# Altium integrated library Maxim Memory.IntLib: 366 symbols (part 7 of 7)
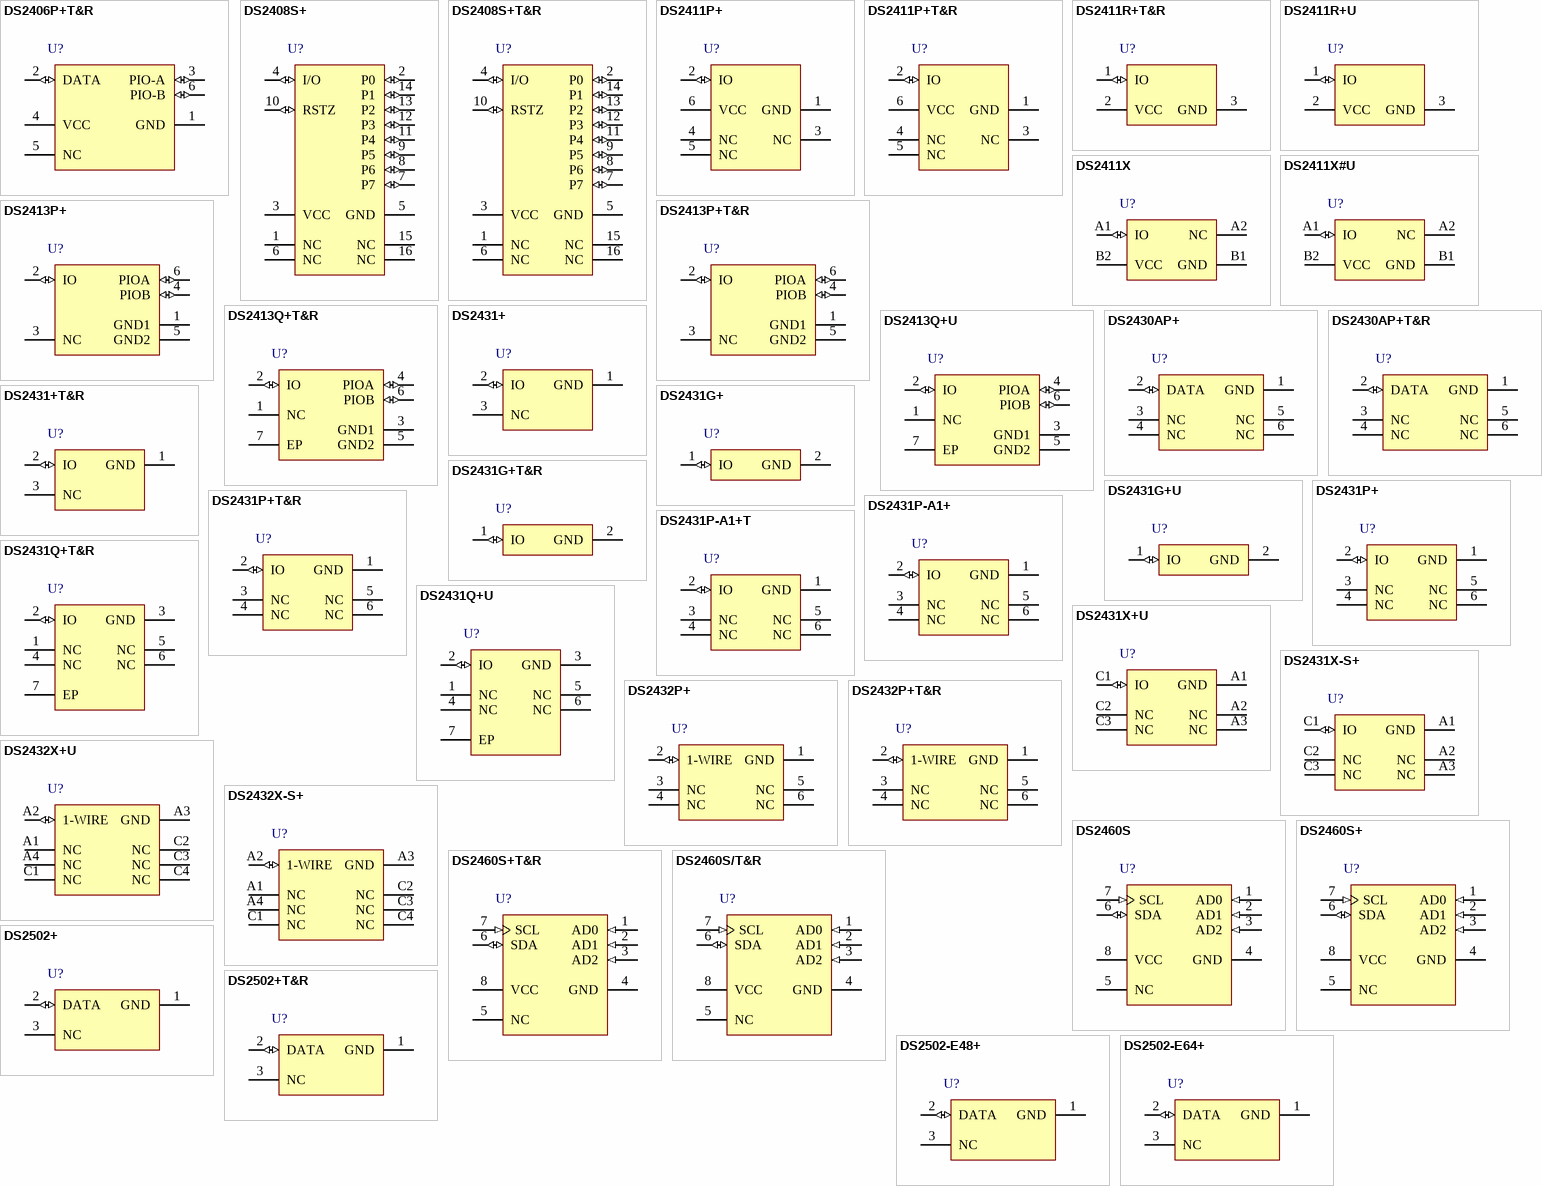
[diagram p19: symbols DS2406P+T&R to DS2502-E64+]

## DS2413Q+T&R
designator U?
1-Wire Dual Channel Addressable Switch, 6-pin TDFN, 0° to + 70° C, Pb-Free, Tape and Reel; DatasheetVersion: 1/07/2010; PackageVersion: revJ, 2009; PackageReference: T633+2; PackageDescription: 6-Pin Plastic Very Very Thin Dual Flatpack No Leads, Exposed Pad, 3 x 3 x 0.8 mm Body, TDFN-EP, Pb-Free; Code_JEDEC: MO-229-WEEA; ComponentLink1Description: Manufacturer URL; ComponentLink1URL: www.maxim-ic.com; ComponentLink2Description: Datasheet; ComponentLink2URL: http://datasheets.maxim-ic.com/en/ds/DS2413.pdf
footprint T633+2_V (SON, 6-Leads, Body 3x3mm, Pitch 0.95mm, Thermal Pad 2.35x1.6mm, Maxim Recommended)
pins: 1 NC, 2 IO (io), 3 GND1 (power), 4 PIOA (io), 5 GND2 (power), 6 PIOB (io), 7 EP

## DS2413Q+U
designator U?
1-Wire Dual Channel Addressable Switch, 6-pin TDFN, 0° to + 70° C, Pb-Free, Cut Tape; DatasheetVersion: 1/07/2010; PackageVersion: revJ, 2009; PackageReference: T633+2; PackageDescription: 6-Pin Plastic Very Very Thin Dual Flatpack No Leads, Exposed Pad, 3 x 3 x 0.8 mm Body, TDFN-EP, Pb-Free; Code_JEDEC: MO-229-WEEA; ComponentLink1Description: Manufacturer URL; ComponentLink1URL: www.maxim-ic.com; ComponentLink2Description: Datasheet; ComponentLink2URL: http://datasheets.maxim-ic.com/en/ds/DS2413.pdf
footprint T633+2_V (SON, 6-Leads, Body 3x3mm, Pitch 0.95mm, Thermal Pad 2.35x1.6mm, Maxim Recommended)
pins: 1 NC, 2 IO (io), 3 GND1 (power), 4 PIOA (io), 5 GND2 (power), 6 PIOB (io), 7 EP

## DS2430AP+
designator U?
256-Bit 1-Wire EEPROM, 6-pin TSOC, -40° to + 85° C, Pb-Free; DatasheetVersion: 1/04/2010; PackageVersion: revE, 2011; PackageReference: D6+1; PackageDescription: Thin Small-Outline, 6 C-Leads, 3.9 x 3.8 mm Body, 1.27 mm Pitch, TSOC, Pb-Free; ComponentLink1Description: Manufacturer URL; ComponentLink1URL: www.maxim-ic.com; ComponentLink2Description: Datasheet; ComponentLink2URL: http://datasheets.maxim-ic.com/en/ds/DS2430A.pdf
footprint D6+1 (Small Outline; 6 C-Bend Leads; Body Width 3.8 mm; Pitch 1.27 mm, Maxim Recommended)
pins: 1 GND (power), 2 DATA (io), 3 NC, 4 NC, 5 NC, 6 NC

## DS2430AP+T&R
designator U?
256-Bit 1-Wire EEPROM, 6-pin TSOC, -40° to + 85° C, Pb-Free, Tape and Reel; DatasheetVersion: 1/04/2010; PackageVersion: revE, 2011; PackageReference: D6+1; PackageDescription: Thin Small-Outline, 6 C-Leads, 3.9 x 3.8 mm Body, 1.27 mm Pitch, TSOC, Pb-Free; ComponentLink1Description: Manufacturer URL; ComponentLink1URL: www.maxim-ic.com; ComponentLink2Description: Datasheet; ComponentLink2URL: http://datasheets.maxim-ic.com/en/ds/DS2430A.pdf
footprint D6+1 (Small Outline; 6 C-Bend Leads; Body Width 3.8 mm; Pitch 1.27 mm, Maxim Recommended)
pins: 1 GND (power), 2 DATA (io), 3 NC, 4 NC, 5 NC, 6 NC

## DS2431+
designator U?
1Kb 1-Wire EEPROM, 3-pin TO-92, -40° to + 85° C, Pb-Free; DatasheetVersion: 1/03/2011; PackageVersion: revB, 2009; PackageReference: Q3+1; PackageDescription: TO-92 Package, Body Dia. 4.7mm; Leads 0.51 x 0.51 mm (max), Pb-Free; Code_JEDEC: TO-226-AA; ComponentLink1Description: Manufacturer URL; ComponentLink1URL: www.maxim-ic.com; ComponentLink2Description: Datasheet; ComponentLink2URL: http://datasheets.maxim-ic.com/en/ds/DS2431.pdf
footprint Q3+1 (TO, Flat Index; 3 In-Line, Axial Leads; Body Dia. 4.7mm; Leads 0.56 x 0.51 mm (max))
pins: 1 GND (power), 2 IO (io), 3 NC

## DS2431+T&R
designator U?
1Kb 1-Wire EEPROM, 3-pin TO-92, -40° to + 85° C, Pb-Free, Tape and Reel; DatasheetVersion: 1/03/2011; PackageVersion: revB, 2010; PackageReference: Q3+4; PackageDescription: TO-92 Package, Formed Leads, Body Dia. 4.7mm; Leads 0.51 x 0.51 mm (max), Pb-Free; Code_JEDEC: TO-226-AA; ComponentLink1Description: Manufacturer URL; ComponentLink1URL: www.maxim-ic.com; ComponentLink2Description: Datasheet; ComponentLink2URL: http://datasheets.maxim-ic.com/en/ds/DS2431.pdf
footprint Q3+4 (TO, Flat Index; 3 In-Line, Formed Axial Leads; Body Dia. 4.7mm; Leads 0.56 x 0.51 mm (max))
pins: 1 GND (power), 2 IO (io), 3 NC

## DS2431G+
designator U?
1Kb 1-Wire EEPROM, 2-pin SFN, -40° to + 85° C, Pb-Free; DatasheetVersion: 1/03/2011; PackageVersion: revB, 2009; PackageReference: G266N+1; PackageDescription: 2-Pin Quad Flatpack, No Leads, 6 x 6 x 0.9 mm Body, SFN, Pb-Free; ComponentLink1Description: Manufacturer URL; ComponentLink1URL: www.maxim-ic.com; ComponentLink2Description: Datasheet; ComponentLink2URL: http://datasheets.maxim-ic.com/en/ds/DS2431.pdf
footprint G266N+1 (SFN, 2-Leads, Body 6x6mm)
pins: 1 IO (io), 2 GND (power)

## DS2431G+T&R
designator U?
1Kb 1-Wire EEPROM, 2-pin SFN, -40° to + 85° C, Pb-Free, Tape and Reel; DatasheetVersion: 1/03/2011; PackageVersion: revB, 2009; PackageReference: G266N+1; PackageDescription: 2-Pin Quad Flatpack, No Leads, 6 x 6 x 0.9 mm Body, SFN, Pb-Free; ComponentLink1Description: Manufacturer URL; ComponentLink1URL: www.maxim-ic.com; ComponentLink2Description: Datasheet; ComponentLink2URL: http://datasheets.maxim-ic.com/en/ds/DS2431.pdf
footprint G266N+1 (SFN, 2-Leads, Body 6x6mm)
pins: 1 IO (io), 2 GND (power)

## DS2431G+U
designator U?
1Kb 1-Wire EEPROM, 2-pin SFN, -40° to + 85° C, Pb-Free, Cut Tape; DatasheetVersion: 1/03/2011; PackageVersion: revB, 2009; PackageReference: G266N+1; PackageDescription: 2-Pin Quad Flatpack, No Leads, 6 x 6 x 0.9 mm Body, SFN, Pb-Free; ComponentLink1Description: Manufacturer URL; ComponentLink1URL: www.maxim-ic.com; ComponentLink2Description: Datasheet; ComponentLink2URL: http://datasheets.maxim-ic.com/en/ds/DS2431.pdf
footprint G266N+1 (SFN, 2-Leads, Body 6x6mm)
pins: 1 IO (io), 2 GND (power)

## DS2431P+
designator U?
1Kb 1-Wire EEPROM, 6-pin TSOC, -40° to + 85° C, Pb-Free; DatasheetVersion: 1/03/2011; PackageVersion: revE, 2011; PackageReference: D6+1; PackageDescription: Thin Small-Outline, 6 C-Leads, 3.9 x 3.8 mm Body, 1.27 mm Pitch, TSOC, Pb-Free; ComponentLink1Description: Manufacturer URL; ComponentLink1URL: www.maxim-ic.com; ComponentLink2Description: Datasheet; ComponentLink2URL: http://datasheets.maxim-ic.com/en/ds/DS2431.pdf
footprint D6+1 (Small Outline; 6 C-Bend Leads; Body Width 3.8 mm; Pitch 1.27 mm, Maxim Recommended)
pins: 1 GND (power), 2 IO (io), 3 NC, 4 NC, 5 NC, 6 NC

## DS2431P+T&R
designator U?
1Kb 1-Wire EEPROM, 6-pin TSOC, -40° to + 85° C, Pb-Free, Tape and Reel; DatasheetVersion: 1/03/2011; PackageVersion: revE, 2011; PackageReference: D6+1; PackageDescription: Thin Small-Outline, 6 C-Leads, 3.9 x 3.8 mm Body, 1.27 mm Pitch, TSOC, Pb-Free; ComponentLink1Description: Manufacturer URL; ComponentLink1URL: www.maxim-ic.com; ComponentLink2Description: Datasheet; ComponentLink2URL: http://datasheets.maxim-ic.com/en/ds/DS2431.pdf
footprint D6+1 (Small Outline; 6 C-Bend Leads; Body Width 3.8 mm; Pitch 1.27 mm, Maxim Recommended)
pins: 1 GND (power), 2 IO (io), 3 NC, 4 NC, 5 NC, 6 NC

## DS2431P-A1+
designator U?
1Kb 1-Wire EEPROM for Automotive Applications, 6-pin TSOC, -40° to + 125° C, Pb-Free; DatasheetVersion: 1/03/2008; PackageVersion: revE, 2011; PackageReference: D6+1; PackageDescription: Thin Small-Outline, 6 C-Leads, 3.9 x 3.8 mm Body, 1.27 mm Pitch, TSOC, Pb-Free; ComponentLink1Description: Manufacturer URL; ComponentLink1URL: www.maxim-ic.com; ComponentLink2Description: Datasheet; ComponentLink2URL: http://datasheets.maxim-ic.com/en/ds/DS2431-A1.pdf
footprint D6+1 (Small Outline; 6 C-Bend Leads; Body Width 3.8 mm; Pitch 1.27 mm, Maxim Recommended)
pins: 1 GND (power), 2 IO (io), 3 NC, 4 NC, 5 NC, 6 NC

## DS2431P-A1+T
designator U?
1Kb 1-Wire EEPROM for Automotive Applications, 6-pin TSOC, -40° to + 125° C, Pb-Free, Tape and Reel; DatasheetVersion: 1/03/2008; PackageVersion: revE, 2011; PackageReference: D6+1; PackageDescription: Thin Small-Outline, 6 C-Leads, 3.9 x 3.8 mm Body, 1.27 mm Pitch, TSOC, Pb-Free; ComponentLink1Description: Manufacturer URL; ComponentLink1URL: www.maxim-ic.com; ComponentLink2Description: Datasheet; ComponentLink2URL: http://datasheets.maxim-ic.com/en/ds/DS2431-A1.pdf
footprint D6+1 (Small Outline; 6 C-Bend Leads; Body Width 3.8 mm; Pitch 1.27 mm, Maxim Recommended)
pins: 1 GND (power), 2 IO (io), 3 NC, 4 NC, 5 NC, 6 NC

## DS2431Q+T&R
designator U?
1Kb 1-Wire EEPROM, 6-pin TDFN, -40° to + 85° C, Pb-Free, Tape and Reel; DatasheetVersion: 1/03/2011; PackageVersion: revJ, 2009; PackageReference: T633+2; PackageDescription: 6-Pin Plastic Very Very Thin Dual Flatpack No Leads, Exposed Pad, 3 x 3 x 0.8 mm Body, TDFN-EP, Pb-Free; Code_JEDEC: MO-229-WEEA; ComponentLink1Description: Manufacturer URL; ComponentLink1URL: www.maxim-ic.com; ComponentLink2Description: Datasheet; ComponentLink2URL: http://datasheets.maxim-ic.com/en/ds/DS2431.pdf
footprint T633+2_V (SON, 6-Leads, Body 3x3mm, Pitch 0.95mm, Thermal Pad 2.35x1.6mm, Maxim Recommended)
pins: 1 NC, 2 IO (io), 3 GND (power), 4 NC, 5 NC, 6 NC, 7 EP

## DS2431Q+U
designator U?
1Kb 1-Wire EEPROM, 6-pin TDFN, -40° to + 85° C, Pb-Free, Cut Tape; DatasheetVersion: 1/03/2011; PackageVersion: revJ, 2009; PackageReference: T633+2; PackageDescription: 6-Pin Plastic Very Very Thin Dual Flatpack No Leads, Exposed Pad, 3 x 3 x 0.8 mm Body, TDFN-EP, Pb-Free; Code_JEDEC: MO-229-WEEA; ComponentLink1Description: Manufacturer URL; ComponentLink1URL: www.maxim-ic.com; ComponentLink2Description: Datasheet; ComponentLink2URL: http://datasheets.maxim-ic.com/en/ds/DS2431.pdf
footprint T633+2_V (SON, 6-Leads, Body 3x3mm, Pitch 0.95mm, Thermal Pad 2.35x1.6mm, Maxim Recommended)
pins: 1 NC, 2 IO (io), 3 GND (power), 4 NC, 5 NC, 6 NC, 7 EP

## DS2431X+U
designator U?
1Kb 1-Wire EEPROM, 6-pin UCSPR, -40° to + 85° C, Pb-Free, Cut Tape; DatasheetVersion: 1/03/2011; PackageVersion: revB, 2010; PackageReference: BR622+1; PackageDescription: 6-Ball Ultra Chip-Scale Package, 3x3 Array, 0.5mm Pitch, UCSP, Pb-Free; ComponentLink1Description: Manufacturer URL; ComponentLink1URL: www.maxim-ic.com; ComponentLink2Description: Datasheet; ComponentLink2URL: http://datasheets.maxim-ic.com/en/ds/DS2431.pdf
footprint BR622+1 (Micro SMD, 6-Leads, Body 1.68x1.68mm, Pitch 0.5mm)
pins: A1 GND (power), A2 NC, A3 NC, C1 IO (io), C2 NC, C3 NC

## DS2431X-S+
designator U?
1Kb 1-Wire EEPROM, 6-pin UCSPR, -40° to + 85° C, Pb-Free; DatasheetVersion: 1/03/2011; PackageVersion: revB, 2010; PackageReference: BR622+1; PackageDescription: 6-Ball Ultra Chip-Scale Package, 3x3 Array, 0.5mm Pitch, UCSP, Pb-Free; ComponentLink1Description: Manufacturer URL; ComponentLink1URL: www.maxim-ic.com; ComponentLink2Description: Datasheet; ComponentLink2URL: http://datasheets.maxim-ic.com/en/ds/DS2431.pdf
footprint BR622+1 (Micro SMD, 6-Leads, Body 1.68x1.68mm, Pitch 0.5mm)
pins: A1 GND (power), A2 NC, A3 NC, C1 IO (io), C2 NC, C3 NC

## DS2432P+
designator U?
1Kb Protected 1-Wire EEPROM with SHA-1 Engine, 6-pin TSOC, -40° to + 85° C, Pb-Free; DatasheetVersion: 1/02/2010; PackageVersion: revE, 2011; PackageReference: D6+1; PackageDescription: Thin Small-Outline, 6 C-Leads, 3.9 x 3.8 mm Body, 1.27 mm Pitch, TSOC, Pb-Free; ComponentLink1Description: Manufacturer URL; ComponentLink1URL: www.maxim-ic.com; ComponentLink2Description: Datasheet; ComponentLink2URL: http://datasheets.maxim-ic.com/en/ds/DS2432.pdf
footprint D6+1 (Small Outline; 6 C-Bend Leads; Body Width 3.8 mm; Pitch 1.27 mm, Maxim Recommended)
pins: 1 GND (power), 2 1-WIRE (io), 3 NC, 4 NC, 5 NC, 6 NC

## DS2432P+T&R
designator U?
1Kb Protected 1-Wire EEPROM with SHA-1 Engine, 6-pin TSOC, -40° to + 85° C, Pb-Free, Tape and Reel; DatasheetVersion: 1/02/2010; PackageVersion: revE, 2011; PackageReference: D6+1; PackageDescription: Thin Small-Outline, 6 C-Leads, 3.9 x 3.8 mm Body, 1.27 mm Pitch, TSOC, Pb-Free; ComponentLink1Description: Manufacturer URL; ComponentLink1URL: www.maxim-ic.com; ComponentLink2Description: Datasheet; ComponentLink2URL: http://datasheets.maxim-ic.com/en/ds/DS2432.pdf
footprint D6+1 (Small Outline; 6 C-Bend Leads; Body Width 3.8 mm; Pitch 1.27 mm, Maxim Recommended)
pins: 1 GND (power), 2 1-WIRE (io), 3 NC, 4 NC, 5 NC, 6 NC

## DS2432X+U
designator U?
1Kb Protected 1-Wire EEPROM with SHA-1 Engine, 8-pin UCSP, -40° to + 85° C, Pb-Free, Cut Tape; DatasheetVersion: 1/02/2010; PackageVersion: revB, 2009; PackageReference: BR823+1; PackageDescription: 8-Ball Wafer-Level Chip-Scale Package, 4x3 Array, 0.3 mm Ball Dia, WLCSP; ComponentLink1Description: Manufacturer URL; ComponentLink1URL: www.maxim-ic.com; ComponentLink2Description: Datasheet; ComponentLink2URL: http://datasheets.maxim-ic.com/en/ds/DS2432.pdf
footprint BR823+1 (Micro SMD, 8-Leads, Body 1.8x2.52mm, Pitch 0.5mm)
pins: A1 NC, A2 1-WIRE (io), A3 GND (power), A4 NC, C1 NC, C2 NC, C3 NC, C4 NC

## DS2432X-S+
designator U?
1Kb Protected 1-Wire EEPROM with SHA-1 Engine, 8-pin UCSP, -40° to + 85° C, Pb-Free; DatasheetVersion: 1/02/2010; PackageVersion: revB, 2009; PackageReference: BR823+1; PackageDescription: 8-Ball Wafer-Level Chip-Scale Package, 4x3 Array, 0.3 mm Ball Dia, WLCSP; ComponentLink1Description: Manufacturer URL; ComponentLink1URL: www.maxim-ic.com; ComponentLink2Description: Datasheet; ComponentLink2URL: http://datasheets.maxim-ic.com/en/ds/DS2432.pdf
footprint BR823+1 (Micro SMD, 8-Leads, Body 1.8x2.52mm, Pitch 0.5mm)
pins: A1 NC, A2 1-WIRE (io), A3 GND (power), A4 NC, C1 NC, C2 NC, C3 NC, C4 NC

## DS2460S
designator U?
SHA-1 Coprocessor with EEPROM, 8-pin SOIC (150 mils), -40° to + 85° C; DatasheetVersion: 1/03/2010; PackageVersion: revC, 2010; PackageReference: S8-4; PackageDescription: 8-Pin Small-Outline IC, Narrow (0.15in), 1.27 mm Pitch, SOIC (N); Code_JEDEC: MS-012-AA; Code_IPC: SOIC127P600-8; ComponentLink1Description: Manufacturer URL; ComponentLink1URL: www.maxim-ic.com; ComponentLink2Description: Datasheet; ComponentLink2URL: http://datasheets.maxim-ic.com/en/ds/DS2460.pdf
footprint S8-4_N (SOIC, 8-Leads, Body 4.9x3.9mm, Pitch 1.27mm, IPC Medium Density)
footprint S8-4_L (SOIC, 8-Leads, Body 4.9x3.9mm, Pitch 1.27mm, IPC High Density)
footprint S8-4_M (SOIC, 8-Leads, Body 4.9x3.9mm, Pitch 1.27mm, IPC Low Density)
pins: 1 AD0 (in), 2 AD1 (in), 3 AD2 (in), 4 GND (power), 5 NC, 6 SDA (io), 7 SCL (in), 8 VCC (power)

## DS2460S+
designator U?
SHA-1 Coprocessor with EEPROM, 8-pin SOIC (150 mils), -40° to + 85° C, Pb-Free; DatasheetVersion: 1/03/2010; PackageVersion: revC, 2010; PackageReference: S8+4; PackageDescription: 8-Pin Small-Outline IC, Narrow (0.15in), 1.27 mm Pitch, SOIC (N), Pb-Free; Code_JEDEC: MS-012-AA; Code_IPC: SOIC127P600-8; ComponentLink1Description: Manufacturer URL; ComponentLink1URL: www.maxim-ic.com; ComponentLink2Description: Datasheet; ComponentLink2URL: http://datasheets.maxim-ic.com/en/ds/DS2460.pdf
footprint S8+4_N (SOIC, 8-Leads, Body 4.9x3.9mm, Pitch 1.27mm, IPC Medium Density)
footprint S8+4_L (SOIC, 8-Leads, Body 4.9x3.9mm, Pitch 1.27mm, IPC High Density)
footprint S8+4_M (SOIC, 8-Leads, Body 4.9x3.9mm, Pitch 1.27mm, IPC Low Density)
pins: 1 AD0 (in), 2 AD1 (in), 3 AD2 (in), 4 GND (power), 5 NC, 6 SDA (io), 7 SCL (in), 8 VCC (power)

## DS2460S+T&R
designator U?
SHA-1 Coprocessor with EEPROM, 8-pin SOIC (150 mils), -40° to + 85° C, Pb-Free, Tape and Reel; DatasheetVersion: 1/03/2010; PackageVersion: revC, 2010; PackageReference: S8+4; PackageDescription: 8-Pin Small-Outline IC, Narrow (0.15in), 1.27 mm Pitch, SOIC (N), Pb-Free; Code_JEDEC: MS-012-AA; Code_IPC: SOIC127P600-8; ComponentLink1Description: Manufacturer URL; ComponentLink1URL: www.maxim-ic.com; ComponentLink2Description: Datasheet; ComponentLink2URL: http://datasheets.maxim-ic.com/en/ds/DS2460.pdf
footprint S8+4_N (SOIC, 8-Leads, Body 4.9x3.9mm, Pitch 1.27mm, IPC Medium Density)
footprint S8+4_L (SOIC, 8-Leads, Body 4.9x3.9mm, Pitch 1.27mm, IPC High Density)
footprint S8+4_M (SOIC, 8-Leads, Body 4.9x3.9mm, Pitch 1.27mm, IPC Low Density)
pins: 1 AD0 (in), 2 AD1 (in), 3 AD2 (in), 4 GND (power), 5 NC, 6 SDA (io), 7 SCL (in), 8 VCC (power)

## DS2460S/T&R
designator U?
SHA-1 Coprocessor with EEPROM, 8-pin SOIC (150 mils), -40° to + 85° C, Tape and Reel; DatasheetVersion: 1/03/2010; PackageVersion: revC, 2010; PackageReference: S8-4; PackageDescription: 8-Pin Small-Outline IC, Narrow (0.15in), 1.27 mm Pitch, SOIC (N); Code_JEDEC: MS-012-AA; Code_IPC: SOIC127P600-8; ComponentLink1Description: Manufacturer URL; ComponentLink1URL: www.maxim-ic.com; ComponentLink2Description: Datasheet; ComponentLink2URL: http://datasheets.maxim-ic.com/en/ds/DS2460.pdf
footprint S8-4_N (SOIC, 8-Leads, Body 4.9x3.9mm, Pitch 1.27mm, IPC Medium Density)
footprint S8-4_L (SOIC, 8-Leads, Body 4.9x3.9mm, Pitch 1.27mm, IPC High Density)
footprint S8-4_M (SOIC, 8-Leads, Body 4.9x3.9mm, Pitch 1.27mm, IPC Low Density)
pins: 1 AD0 (in), 2 AD1 (in), 3 AD2 (in), 4 GND (power), 5 NC, 6 SDA (io), 7 SCL (in), 8 VCC (power)

## DS2502+
designator U?
1Kb Add-Only Memory, 3-pin TO-92, -40° to + 85° C, Pb-Free; DatasheetVersion: 1/12/2009; PackageVersion: revB, 2009; PackageReference: Q3+1; PackageDescription: TO-92 Package, Body Dia. 4.7mm; Leads 0.51 x 0.51 mm (max), Pb-Free; Code_JEDEC: TO-226-AA; ComponentLink1Description: Manufacturer URL; ComponentLink1URL: www.maxim-ic.com; ComponentLink2Description: Datasheet; ComponentLink2URL: http://datasheets.maxim-ic.com/en/ds/DS2502.pdf
footprint Q3+1 (TO, Flat Index; 3 In-Line, Axial Leads; Body Dia. 4.7mm; Leads 0.56 x 0.51 mm (max))
pins: 1 GND (power), 2 DATA (io), 3 NC

## DS2502+T&R
designator U?
1Kb Add-Only Memory, 3-pin TO-92, -40° to + 85° C, Pb-Free, Tape and Reel; DatasheetVersion: 1/12/2009; PackageVersion: revB, 2010; PackageReference: Q3+4; PackageDescription: TO-92 Package, Formed Leads, Body Dia. 4.7mm; Leads 0.51 x 0.51 mm (max), Pb-Free; Code_JEDEC: TO-226-AA; ComponentLink1Description: Manufacturer URL; ComponentLink1URL: www.maxim-ic.com; ComponentLink2Description: Datasheet; ComponentLink2URL: http://datasheets.maxim-ic.com/en/ds/DS2502.pdf
footprint Q3+4 (TO, Flat Index; 3 In-Line, Formed Axial Leads; Body Dia. 4.7mm; Leads 0.56 x 0.51 mm (max))
pins: 1 GND (power), 2 DATA (io), 3 NC

## DS2502-E48+
designator U?
48-Bit Node Address Chip, 3-pin TO-92, -40° to + 85° C, Pb-Free; DatasheetVersion: 1/12/2009; PackageVersion: revB, 2009; PackageReference: Q3+1; PackageDescription: TO-92 Package, Body Dia. 4.7mm; Leads 0.51 x 0.51 mm (max), Pb-Free; Code_JEDEC: TO-226-AA; ComponentLink1Description: Manufacturer URL; ComponentLink1URL: www.maxim-ic.com; ComponentLink2Description: Datasheet; ComponentLink2URL: http://datasheets.maxim-ic.com/en/ds/DS2502-E48.pdf
footprint Q3+1 (TO, Flat Index; 3 In-Line, Axial Leads; Body Dia. 4.7mm; Leads 0.56 x 0.51 mm (max))
pins: 1 GND (power), 2 DATA (io), 3 NC

## DS2502-E64+
designator U?
IEEE EUI-64 Node Address Chip, 3-pin TO-92, -40° to + 85° C, Pb-Free; DatasheetVersion: 1/12/2009; PackageVersion: revB, 2009; PackageReference: Q3+1; PackageDescription: TO-92 Package, Body Dia. 4.7mm; Leads 0.51 x 0.51 mm (max), Pb-Free; Code_JEDEC: TO-226-AA; ComponentLink1Description: Manufacturer URL; ComponentLink1URL: www.maxim-ic.com; ComponentLink2Description: Datasheet; ComponentLink2URL: http://datasheets.maxim-ic.com/en/ds/DS2502-E64.pdf
footprint Q3+1 (TO, Flat Index; 3 In-Line, Axial Leads; Body Dia. 4.7mm; Leads 0.56 x 0.51 mm (max))
pins: 1 GND (power), 2 DATA (io), 3 NC

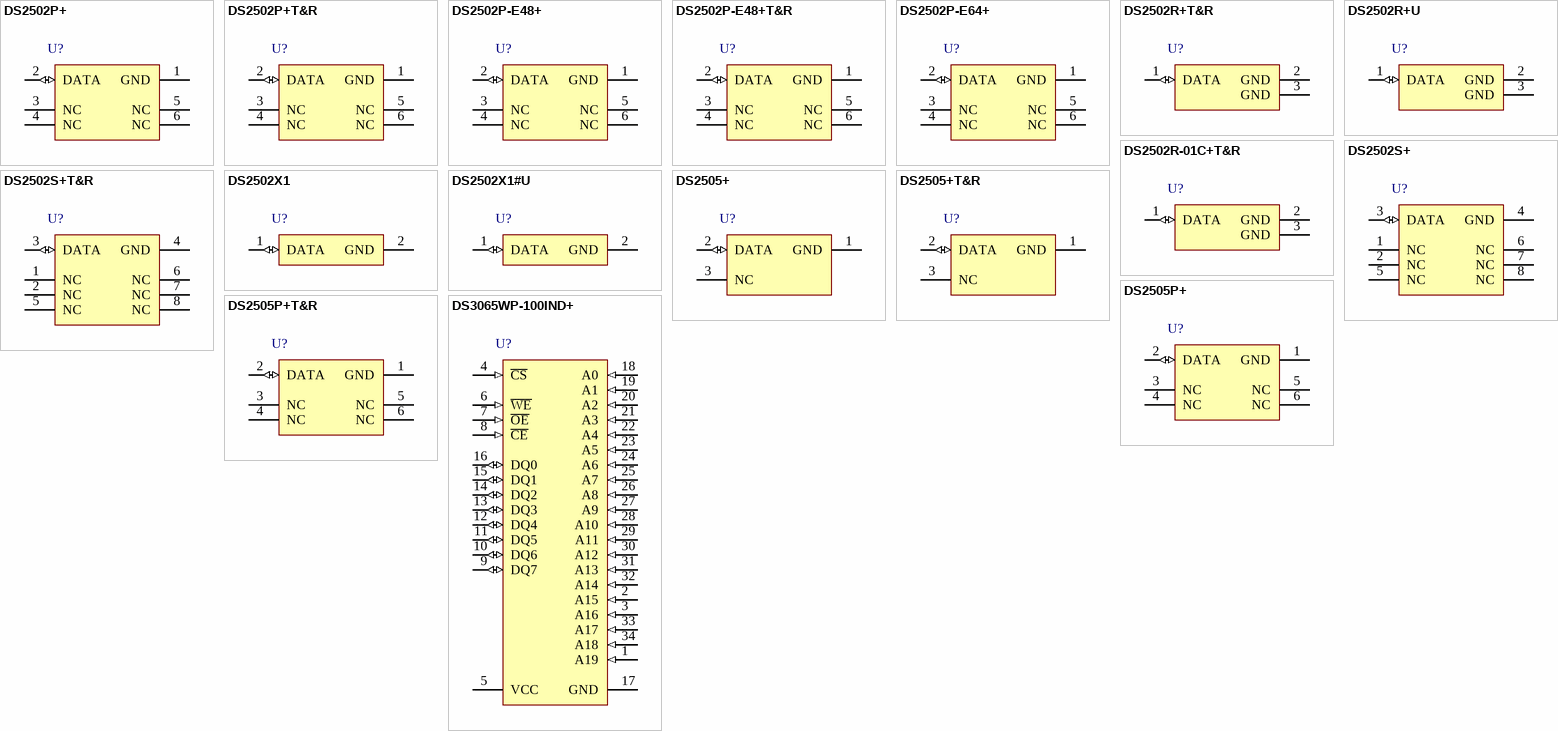
[diagram p13: symbols DS2502P+ to DS3065WP-100IND+]

## DS2502P+
designator U?
1Kb Add-Only Memory, 6-pin TSOC, -40° to + 85° C, Pb-Free; DatasheetVersion: 1/12/2009; PackageVersion: revE, 2011; PackageReference: D6+1; PackageDescription: Thin Small-Outline, 6 C-Leads, 3.9 x 3.8 mm Body, 1.27 mm Pitch, TSOC, Pb-Free; ComponentLink1Description: Manufacturer URL; ComponentLink1URL: www.maxim-ic.com; ComponentLink2Description: Datasheet; ComponentLink2URL: http://datasheets.maxim-ic.com/en/ds/DS2502.pdf
footprint D6+1 (Small Outline; 6 C-Bend Leads; Body Width 3.8 mm; Pitch 1.27 mm, Maxim Recommended)
pins: 1 GND (power), 2 DATA (io), 3 NC, 4 NC, 5 NC, 6 NC

## DS2502P+T&R
designator U?
1Kb Add-Only Memory, 6-pin TSOC, -40° to + 85° C, Pb-Free, Tape and Reel; DatasheetVersion: 1/12/2009; PackageVersion: revE, 2011; PackageReference: D6+1; PackageDescription: Thin Small-Outline, 6 C-Leads, 3.9 x 3.8 mm Body, 1.27 mm Pitch, TSOC, Pb-Free; ComponentLink1Description: Manufacturer URL; ComponentLink1URL: www.maxim-ic.com; ComponentLink2Description: Datasheet; ComponentLink2URL: http://datasheets.maxim-ic.com/en/ds/DS2502.pdf
footprint D6+1 (Small Outline; 6 C-Bend Leads; Body Width 3.8 mm; Pitch 1.27 mm, Maxim Recommended)
pins: 1 GND (power), 2 DATA (io), 3 NC, 4 NC, 5 NC, 6 NC

## DS2502P-E48+
designator U?
48-Bit Node Address Chip, 6-pin TSOC, -40° to + 85° C, Pb-Free; DatasheetVersion: 1/12/2009; PackageVersion: revE, 2011; PackageReference: D6+1; PackageDescription: Thin Small-Outline, 6 C-Leads, 3.9 x 3.8 mm Body, 1.27 mm Pitch, TSOC, Pb-Free; ComponentLink1Description: Manufacturer URL; ComponentLink1URL: www.maxim-ic.com; ComponentLink2Description: Datasheet; ComponentLink2URL: http://datasheets.maxim-ic.com/en/ds/DS2502-E48.pdf
footprint D6+1 (Small Outline; 6 C-Bend Leads; Body Width 3.8 mm; Pitch 1.27 mm, Maxim Recommended)
pins: 1 GND (power), 2 DATA (io), 3 NC, 4 NC, 5 NC, 6 NC

## DS2502P-E48+T&R
designator U?
48-Bit Node Address Chip, 6-pin TSOC, -40° to + 85° C, Pb-Free, Tape and Reel; DatasheetVersion: 1/12/2009; PackageVersion: revE, 2011; PackageReference: D6+1; PackageDescription: Thin Small-Outline, 6 C-Leads, 3.9 x 3.8 mm Body, 1.27 mm Pitch, TSOC, Pb-Free; ComponentLink1Description: Manufacturer URL; ComponentLink1URL: www.maxim-ic.com; ComponentLink2Description: Datasheet; ComponentLink2URL: http://datasheets.maxim-ic.com/en/ds/DS2502-E48.pdf
footprint D6+1 (Small Outline; 6 C-Bend Leads; Body Width 3.8 mm; Pitch 1.27 mm, Maxim Recommended)
pins: 1 GND (power), 2 DATA (io), 3 NC, 4 NC, 5 NC, 6 NC

## DS2502P-E64+
designator U?
IEEE EUI-64 Node Address Chip, 6-pin TSOC, -40° to + 85° C, Pb-Free; DatasheetVersion: 1/12/2009; PackageVersion: revE, 2011; PackageReference: D6+1; PackageDescription: Thin Small-Outline, 6 C-Leads, 3.9 x 3.8 mm Body, 1.27 mm Pitch, TSOC, Pb-Free; ComponentLink1Description: Manufacturer URL; ComponentLink1URL: www.maxim-ic.com; ComponentLink2Description: Datasheet; ComponentLink2URL: http://datasheets.maxim-ic.com/en/ds/DS2502-E64.pdf
footprint D6+1 (Small Outline; 6 C-Bend Leads; Body Width 3.8 mm; Pitch 1.27 mm, Maxim Recommended)
pins: 1 GND (power), 2 DATA (io), 3 NC, 4 NC, 5 NC, 6 NC

## DS2502R+T&R
designator U?
1Kb Add-Only Memory, 3-pin SOT23, -40° to + 85° C, Pb-Free, Tape and Reel; DatasheetVersion: 1/12/2009; PackageVersion: revI, 2010; PackageReference: U3+5; PackageDescription: 3-Pin Small-Outline Transistor Package 0.95 mm Pitch, 2.4 mm Lead Span, SOT-23, Pb-Free; Code_JEDEC: TO-236-AB; Code_IPC: SOT23-3; ComponentLink1Description: Manufacturer URL; ComponentLink1URL: www.maxim-ic.com; ComponentLink2Description: Datasheet; ComponentLink2URL: http://datasheets.maxim-ic.com/en/ds/DS2502.pdf
footprint U3+5_N (SOT23, 3-Leads, Body 2.9x1.3mm, Pitch 0.95mm, Lead Span 2.4mm, IPC Medium Density)
footprint U3+5_L (SOT23, 3-Leads, Body 2.9x1.3mm, Pitch 0.95mm, Lead Span 2.4mm, IPC High Density)
footprint U3+5_M (SOT23, 3-Leads, Body 2.9x1.3mm, Pitch 0.95mm, Lead Span 2.4mm, IPC Low Density)
pins: 1 DATA (io), 2 GND (power), 3 GND (power)

## DS2502R+U
designator U?
1Kb Add-Only Memory, 3-pin SOT23, -40° to + 85° C, Pb-Free, Cut Tape; DatasheetVersion: 1/12/2009; PackageVersion: revI, 2010; PackageReference: U3+5; PackageDescription: 3-Pin Small-Outline Transistor Package 0.95 mm Pitch, 2.4 mm Lead Span, SOT-23, Pb-Free; Code_JEDEC: TO-236-AB; Code_IPC: SOT23-3; ComponentLink1Description: Manufacturer URL; ComponentLink1URL: www.maxim-ic.com; ComponentLink2Description: Datasheet; ComponentLink2URL: http://datasheets.maxim-ic.com/en/ds/DS2502.pdf
footprint U3+5_N (SOT23, 3-Leads, Body 2.9x1.3mm, Pitch 0.95mm, Lead Span 2.4mm, IPC Medium Density)
footprint U3+5_L (SOT23, 3-Leads, Body 2.9x1.3mm, Pitch 0.95mm, Lead Span 2.4mm, IPC High Density)
footprint U3+5_M (SOT23, 3-Leads, Body 2.9x1.3mm, Pitch 0.95mm, Lead Span 2.4mm, IPC Low Density)
pins: 1 DATA (io), 2 GND (power), 3 GND (power)

## DS2502R-01C+T&R
designator U?
1Kb Add-Only Memory, 3-pin SOT23, -40° to + 85° C, Pb-Free, Tape and Reel; DatasheetVersion: 1/12/2009; PackageVersion: revI, 2010; PackageReference: U3+5; PackageDescription: 3-Pin Small-Outline Transistor Package 0.95 mm Pitch, 2.4 mm Lead Span, SOT-23, Pb-Free; Code_JEDEC: TO-236-AB; Code_IPC: SOT23-3; ComponentLink1Description: Manufacturer URL; ComponentLink1URL: www.maxim-ic.com; ComponentLink2Description: Datasheet; ComponentLink2URL: http://datasheets.maxim-ic.com/en/ds/DS2502.pdf
footprint U3+5_N (SOT23, 3-Leads, Body 2.9x1.3mm, Pitch 0.95mm, Lead Span 2.4mm, IPC Medium Density)
footprint U3+5_L (SOT23, 3-Leads, Body 2.9x1.3mm, Pitch 0.95mm, Lead Span 2.4mm, IPC High Density)
footprint U3+5_M (SOT23, 3-Leads, Body 2.9x1.3mm, Pitch 0.95mm, Lead Span 2.4mm, IPC Low Density)
pins: 1 DATA (io), 2 GND (power), 3 GND (power)

## DS2502S+
designator U?
1Kb Add-Only Memory, 8-pin SOIC, -40° to + 85° C, Pb-Free; DatasheetVersion: 1/12/2009; PackageVersion: revC, 2010; PackageReference: S8+2; PackageDescription: 8-Pin Small-Outline IC, Narrow (0.15in), 1.27 mm Pitch, SOIC (N), Pb-Free; Code_JEDEC: MS-012-AA; Code_IPC: SOIC127P600-8; ComponentLink1Description: Manufacturer URL; ComponentLink1URL: www.maxim-ic.com; ComponentLink2Description: Datasheet; ComponentLink2URL: http://datasheets.maxim-ic.com/en/ds/DS2502.pdf
footprint S8+2_N (SOIC, 8-Leads, Body 4.9x3.9mm, Pitch 1.27mm, IPC Medium Density)
footprint S8+2_L (SOIC, 8-Leads, Body 4.9x3.9mm, Pitch 1.27mm, IPC High Density)
footprint S8+2_M (SOIC, 8-Leads, Body 4.9x3.9mm, Pitch 1.27mm, IPC Low Density)
pins: 1 NC, 2 NC, 3 DATA (io), 4 GND (power), 5 NC, 6 NC, 7 NC, 8 NC

## DS2502S+T&R
designator U?
1Kb Add-Only Memory, 8-pin SOIC, -40° to + 85° C, Pb-Free, Tape and Reel; DatasheetVersion: 1/12/2009; PackageVersion: revC, 2010; PackageReference: S8+2; PackageDescription: 8-Pin Small-Outline IC, Narrow (0.15in), 1.27 mm Pitch, SOIC (N), Pb-Free; Code_JEDEC: MS-012-AA; Code_IPC: SOIC127P600-8; ComponentLink1Description: Manufacturer URL; ComponentLink1URL: www.maxim-ic.com; ComponentLink2Description: Datasheet; ComponentLink2URL: http://datasheets.maxim-ic.com/en/ds/DS2502.pdf
footprint S8+2_N (SOIC, 8-Leads, Body 4.9x3.9mm, Pitch 1.27mm, IPC Medium Density)
footprint S8+2_L (SOIC, 8-Leads, Body 4.9x3.9mm, Pitch 1.27mm, IPC High Density)
footprint S8+2_M (SOIC, 8-Leads, Body 4.9x3.9mm, Pitch 1.27mm, IPC Low Density)
pins: 1 NC, 2 NC, 3 DATA (io), 4 GND (power), 5 NC, 6 NC, 7 NC, 8 NC

## DS2502X1
designator U?
1Kb Add-Only Memory, 2-pin CSP, -40° to + 85° C; DatasheetVersion: 1/12/2009; PackageVersion: revB, 2010; PackageReference: BF211-2; PackageDescription: 2 Bump Flip Chip, 0.91 x 1.60 x 0.432 mm, 0.933 mm Pitch, CSP; ComponentLink1Description: Manufacturer URL; ComponentLink1URL: www.maxim-ic.com; ComponentLink2Description: Datasheet; ComponentLink2URL: http://datasheets.maxim-ic.com/en/ds/DS2502.pdf
footprint BF211-2 (CSP, 2-Leads, Body 1.6x0.91mm, Pitch 0.933mm, Maxim Recommended)
pins: 1 DATA (io), 2 GND (power)

## DS2502X1#U
designator U?
1Kb Add-Only Memory, 2-pin CSP, -40° to + 85° C, RoHS Compliant, Cut Tape; DatasheetVersion: 1/12/2009; PackageVersion: revB, 2010; PackageReference: BF211-2; PackageDescription: 2 Bump Flip Chip, 0.91 x 1.60 x 0.432 mm, 0.933 mm Pitch, CSP; ComponentLink1Description: Manufacturer URL; ComponentLink1URL: www.maxim-ic.com; ComponentLink2Description: Datasheet; ComponentLink2URL: http://datasheets.maxim-ic.com/en/ds/DS2502.pdf
footprint BF211-2 (CSP, 2-Leads, Body 1.6x0.91mm, Pitch 0.933mm, Maxim Recommended)
pins: 1 DATA (io), 2 GND (power)

## DS2505+
designator U?
16Kb Add-Only Memory, 3-pin TO-92, -40° to + 85° C, Pb-Free; DatasheetVersion: 1/06/2009; PackageVersion: revB, 2009; PackageReference: Q3+1; PackageDescription: TO-92 Package, Body Dia. 4.7mm; Leads 0.51 x 0.51 mm (max), Pb-Free; Code_JEDEC: TO-226-AA; ComponentLink1Description: Manufacturer URL; ComponentLink1URL: www.maxim-ic.com; ComponentLink2Description: Datasheet; ComponentLink2URL: http://datasheets.maxim-ic.com/en/ds/DS2505.pdf
footprint Q3+1 (TO, Flat Index; 3 In-Line, Axial Leads; Body Dia. 4.7mm; Leads 0.56 x 0.51 mm (max))
pins: 1 GND (power), 2 DATA (io), 3 NC

## DS2505+T&R
designator U?
16Kb Add-Only Memory, 3-pin TO-92, -40° to + 85° C, Pb-Free, Tape and Reel; DatasheetVersion: 1/06/2009; PackageVersion: revB, 2010; PackageReference: Q3+4; PackageDescription: TO-92 Package, Formed Leads, Body Dia. 4.7mm; Leads 0.51 x 0.51 mm (max), Pb-Free; Code_JEDEC: TO-226-AA; ComponentLink1Description: Manufacturer URL; ComponentLink1URL: www.maxim-ic.com; ComponentLink2Description: Datasheet; ComponentLink2URL: http://datasheets.maxim-ic.com/en/ds/DS2505.pdf
footprint Q3+4 (TO, Flat Index; 3 In-Line, Formed Axial Leads; Body Dia. 4.7mm; Leads 0.56 x 0.51 mm (max))
pins: 1 GND (power), 2 DATA (io), 3 NC

## DS2505P+
designator U?
16Kb Add-Only Memory, 6-pin TSOC, -40° to + 85° C, Pb-Free; DatasheetVersion: 1/06/2009; PackageVersion: revE, 2011; PackageReference: D6+1; PackageDescription: Thin Small-Outline, 6 C-Leads, 3.9 x 3.8 mm Body, 1.27 mm Pitch, TSOC, Pb-Free; ComponentLink1Description: Manufacturer URL; ComponentLink1URL: www.maxim-ic.com; ComponentLink2Description: Datasheet; ComponentLink2URL: http://datasheets.maxim-ic.com/en/ds/DS2505.pdf
footprint D6+1 (Small Outline; 6 C-Bend Leads; Body Width 3.8 mm; Pitch 1.27 mm, Maxim Recommended)
pins: 1 GND (power), 2 DATA (io), 3 NC, 4 NC, 5 NC, 6 NC

## DS2505P+T&R
designator U?
16Kb Add-Only Memory, 6-pin TSOC, -40° to + 85° C, Pb-Free, Tape and Reel; DatasheetVersion: 1/06/2009; PackageVersion: revE, 2011; PackageReference: D6+1; PackageDescription: Thin Small-Outline, 6 C-Leads, 3.9 x 3.8 mm Body, 1.27 mm Pitch, TSOC, Pb-Free; ComponentLink1Description: Manufacturer URL; ComponentLink1URL: www.maxim-ic.com; ComponentLink2Description: Datasheet; ComponentLink2URL: http://datasheets.maxim-ic.com/en/ds/DS2505.pdf
footprint D6+1 (Small Outline; 6 C-Bend Leads; Body Width 3.8 mm; Pitch 1.27 mm, Maxim Recommended)
pins: 1 GND (power), 2 DATA (io), 3 NC, 4 NC, 5 NC, 6 NC

## DS3065WP-100IND+
designator U?
8Mb 3.3V Nonvolatile SRAM with Clock, 34-pin PowerCap Module, -40° to + 85° C, Pb-Free; DatasheetVersion: 1/07/2010; PackageVersion: revA, 2004; PackageReference: PC3+1; PackageDescription: 34-Pin PowerCap 0.990 Module with Cap, Pb-Free; ComponentLink1Description: Manufacturer URL; ComponentLink1URL: www.maxim-ic.com; ComponentLink2Description: Datasheet; ComponentLink2URL: http://datasheets.maxim-ic.com/en/ds/DS3065WP.pdf
footprint PC3+1 (PowerCap Module with Cap, 34-Leads, Body 24.7 x.25.3mm, Pitch 1.27mm)
pins: 1 A19 (in), 2 A15 (in), 3 A16 (in), 4 ~{CS} (in), 5 VCC (power), 6 ~{WE} (in), 7 ~{OE} (in), 8 ~{CE} (in), 9 DQ7 (io), 10 DQ6 (io), 11 DQ5 (io), 12 DQ4 (io), 13 DQ3 (io), 14 DQ2 (io), 15 DQ1 (io), 16 DQ0 (io), 17 GND (power), 18 A0 (in), 19 A1 (in), 20 A2 (in), 21 A3 (in), 22 A4 (in), 23 A5 (in), 24 A6 (in), 25 A7 (in), 26 A8 (in), 27 A9 (in), 28 A10 (in), 29 A11 (in), 30 A12 (in), 31 A13 (in), 32 A14 (in), 33 A17 (in), 34 A18 (in)